# Altium schematic symbol library SN74LS04N.SCHLIB: 1 symbol
Pins are listed as number, name and electrical type; pins without a type are passive.

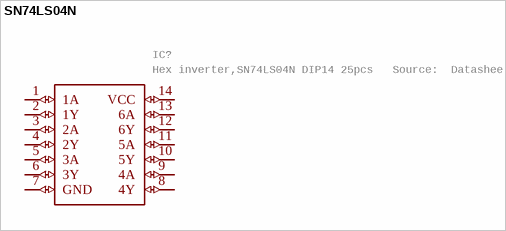
[diagram p0: symbol SN74LS04N]

## SN74LS04N
designator IC?, comment Hex inverter,SN74LS04N DIP14 25pcs   Source:  Datasheet
Manufacturer_Name: Texas Instruments; GateName_1: G$1; SymbolName_1: SN74LS04N; LibraryName: SN74LS04N; DeviceSetName: SN74LS04N; Package: DIP794W53P254L1930H508Q14N; Manufacturer_Part_Number: SN74LS04N; Arrow_Part_Number: SN74LS04N; Arrow_Price-Stock: https://www.arrow.com/en/products/sn74ls04n/texas-instruments; Mouser_Part_Number: 595-SN74LS04N; Mouser_Price-Stock: https://www.mouser.co.uk/ProductDetail/Texas-Instruments/SN74LS04N?qs=spW5eSrOWB4DgGWIHPxzvg%3D%3D; Description: Hex inverter,SN74LS04N DIP14 25pcs; Height: 5.08mm
footprint DIP794W53P254L1930H508Q14N
pins: 1 1A (io), 2 1Y (io), 3 2A (io), 4 2Y (io), 5 3A (io), 6 3Y (io), 7 GND (io), 8 4Y (io), 9 4A (io), 10 5Y (io), 11 5A (io), 12 6Y (io), 13 6A (io), 14 VCC (io)